# EAGLE library part GLX-* (library eagle-book)
8-pin RJ-45 Ethernet jack
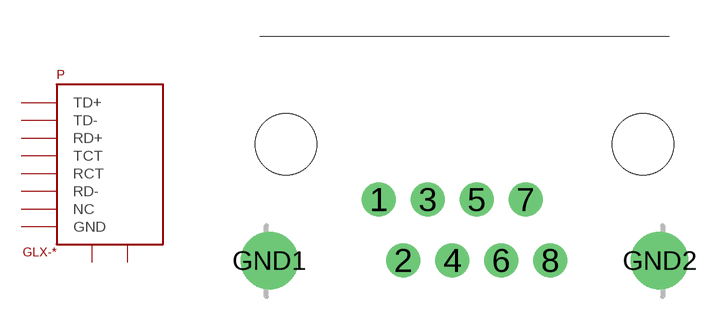
[diagram p21: symbol with the pads of RJ45_JACK; footprint RJ45_JACK]

Designator prefix P

## GLX-S-88M  [RJ45_JACK]
1  TD+
2  TD-
3  RD+
4  TCT
5  RCT
6  RD-
7  NC  nc
8  GND  pwr
GND1  GND1  pwr
GND2  GND2  pwr

## Footprint RJ45_JACK (pad centres in mm)
8-pin RJ-45 Ethernet connector
drill 0.9 pad 1.422: 1 -3.57,-1.03; 2 -2.55,-3.57; 3 -1.53,-1.03; 4 -0.51,-3.57; 5 0.51,-1.03; 6 1.53,-3.57; 7 2.55,-1.03; 8 3.57,-3.57
drill 1.6 pad 2.184: GND1 -8.125,-3.57; GND2 8.125,-3.57
hole 2.55 at -7.44,1.27
hole 2.55 at 7.44,1.27